# Altium footprint library TCA9406DCUR.PcbLib: 1 footprints
Each footprint in its own frame and in the unit in brackets; x right, y up, seen from the top. Pads: shape width x height; smd on the part's side, far side on the other; paste and mask are expansions set on the pad; w line width, h text height; cw(c..) or ccw(c..) is an arc to the next point about the centre after c.
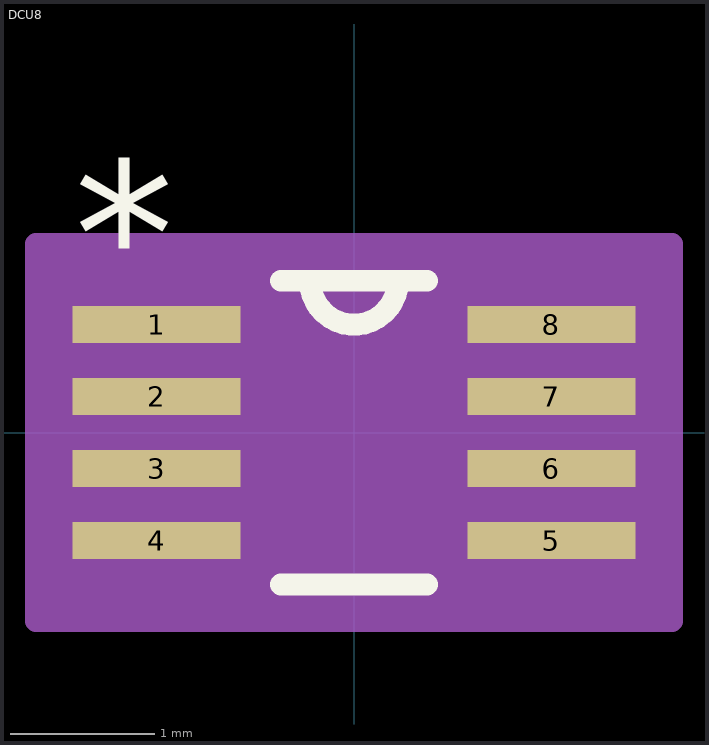
[diagram p0: the footprint, top view; thin cyan lines are the x and y axes]

## DCU8 [mil]
pads (8):
  rect 46x10 smd paste-23 mask-23: 1(-54,29.53) 2(-54,9.84) 3(-54,-9.84) 4(-54,-29.53) 5(54,-29.53) 6(54,-9.84) 7(54,9.84) 8(54,29.53)
Top Overlay:
  lines w6: -19.91,-41.5 19.91,-41.5 ; -19.91,41.5 19.91,41.5 ; -12,41.5 ccw(c0,41.5) 12,41.5
  text "*" at -76.5,34.53 h50
Mechanical 13:
  lines w0: -12,41.5 ccw(c0,41.5) 12,41.5
  lines w1: -63,-34.53 -63,-24.53 -47,-24.53 -47,-34.53 -63,-34.53 ; -63,-14.84 -63,-4.84 -47,-4.84 -47,-14.84 -63,-14.84 ; -63,4.84 -63,14.84 -47,14.84 -47,4.84 -63,4.84 ; -63,24.53 -63,34.53 -47,34.53 -47,24.53 -63,24.53 ; -47,-41.5 47,-41.5 47,41.5 -47,41.5 -47,-41.5 ; 47,-34.53 47,-24.53 63,-24.53 63,-34.53 47,-34.53 ; 47,-14.84 47,-4.84 63,-4.84 63,-14.84 47,-14.84 ; 47,4.84 47,14.84 63,14.84 63,4.84 47,4.84 ; 47,24.53 47,34.53 63,34.53 63,24.53 47,24.53
  text "*" at -76.5,34.53 h50
Mechanical 15:
  region: 87,-51.5 -87,-51.5 -87,51.5 87,51.5
  lines w6: -87,-51.5 -87,51.5 87,51.5 87,-51.5 -87,-51.5
3D body "DCU8.step": height 35.12, standoff 0, extent -62.99,-41.5 62.99,41.5